# Altium schematic symbol library Diod.SchLib: 12 symbols
Pins are listed as number, name and electrical type; pins without a type are passive.

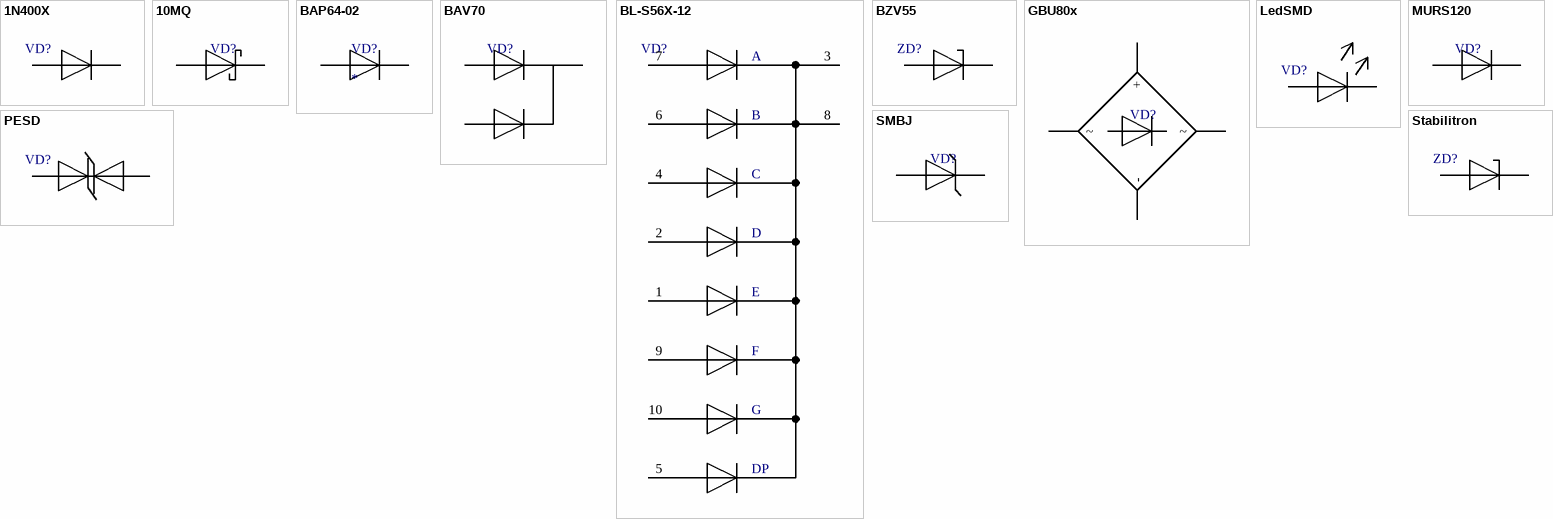
[diagram p0: symbols 1N400X to Stabilitron]

## 1N400X
designator VD?  (value not drawn)
footprint SOD-123FL
pins: A Anod, K Catode

## 10MQ
designator VD?
footprint SMA(DO-214AC) (Molded Capacitor, 2-Leads, Body 4,30x2,61mm, IPC Medium Density)
pins: A Anod, K Catode

## BAP64-02
designator VD?
footprint SOD523
pins: A Anod, K Catode

## BAV70
designator VD?  (value not drawn)
footprint SOT23-3N (SOT23, 3-Leads, Body 2,90x2,45mm, Pitch 0,95mm, IPC Medium Density)
pins: 1 Anod1, 2 Anod2, 3 Catode

## BL-S56X-12
designator VD?  (value not drawn)
footprint BL-56S
pins: 1 E, 2 D, 3 A, 4 C, 5 DP, 6 B, 7 A, 8 A, 9 F, 10 G

## BZV55
designator ZD?  (value not drawn)
Parameter 1: BZV55-XXXX
footprint SOD80C (MELF Diode, 2-Leads, Body 3,50x1,65mm, IPC Medium Density)
pins: A Anod, K Catode

## GBU80x
designator VD?  (value not drawn)
footprint GBU80x
pins: 1 ~, 2 +, 3 ~, 4 -

## LedSMD
designator VD?  (value not drawn)
footprint LED0603
footprint LED0805
footprint Led 5mm
footprint LED 3528
pins: A Anod, K Catode

## MURS120
designator VD?  (value not drawn)
footprint DO-214
pins: A Anod, K Catode

## PESD
designator VD?  (value not drawn)
Order: PESD
footprint SOD323
pins: A Anod, K Catode

## SMBJ
designator VD?  (value not drawn)
footprint DO-214
pins: A Anod, K Catode

## Stabilitron
designator ZD?  (value not drawn)
footprint BZXSOT23-3N (SOT23, 3-Leads, Body 2,90x2,45mm, Pitch 0,95mm, IPC Medium Density)
pins: A Anod, K Catode